# Altium integrated library pic16f616.IntLib: 1 symbol
Pins are listed as number, name and electrical type; pins without a type are passive.

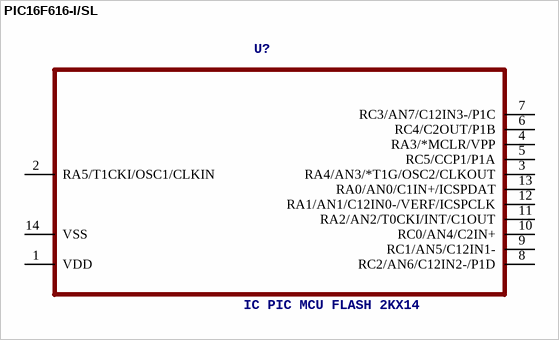
[diagram p0: symbol PIC16F616-I/SL]

## PIC16F616-I/SL
designator U?, comment IC PIC MCU FLASH 2KX14
MPN: PIC16F616-I/SL; OC_FARNELL: 1332201; OC_NEWARK: 74K8541; PACKAGE: 14SOIC; SUPPLIER: Microchip Technology
footprint SOIC127P600X175-14N
pins: 1 VDD (power), 2 RA5/T1CKI/OSC1/CLKIN, 3 RA4/AN3/*T1G/OSC2/CLKOUT, 4 RA3/*MCLR/VPP, 5 RC5/CCP1/P1A, 6 RC4/C2OUT/P1B, 7 RC3/AN7/C12IN3-/P1C, 8 RC2/AN6/C12IN2-/P1D, 9 RC1/AN5/C12IN1-, 10 RC0/AN4/C2IN+, 11 RA2/AN2/T0CKI/INT/C1OUT, 12 RA1/AN1/C12IN0-/VERF/ICSPCLK, 13 RA0/AN0/C1IN+/ICSPDAT, 14 VSS